# Altium footprint library AltiumOpenLibs.PcbLib: 173 footprints (part 7 of 11)
Each footprint in its own frame and in the unit in brackets; x right, y up, seen from the top. Pads: shape width x height; smd on the part's side, far side on the other; paste and mask are expansions set on the pad; w line width, h text height; cw(c..) or ccw(c..) is an arc to the next point about the centre after c.
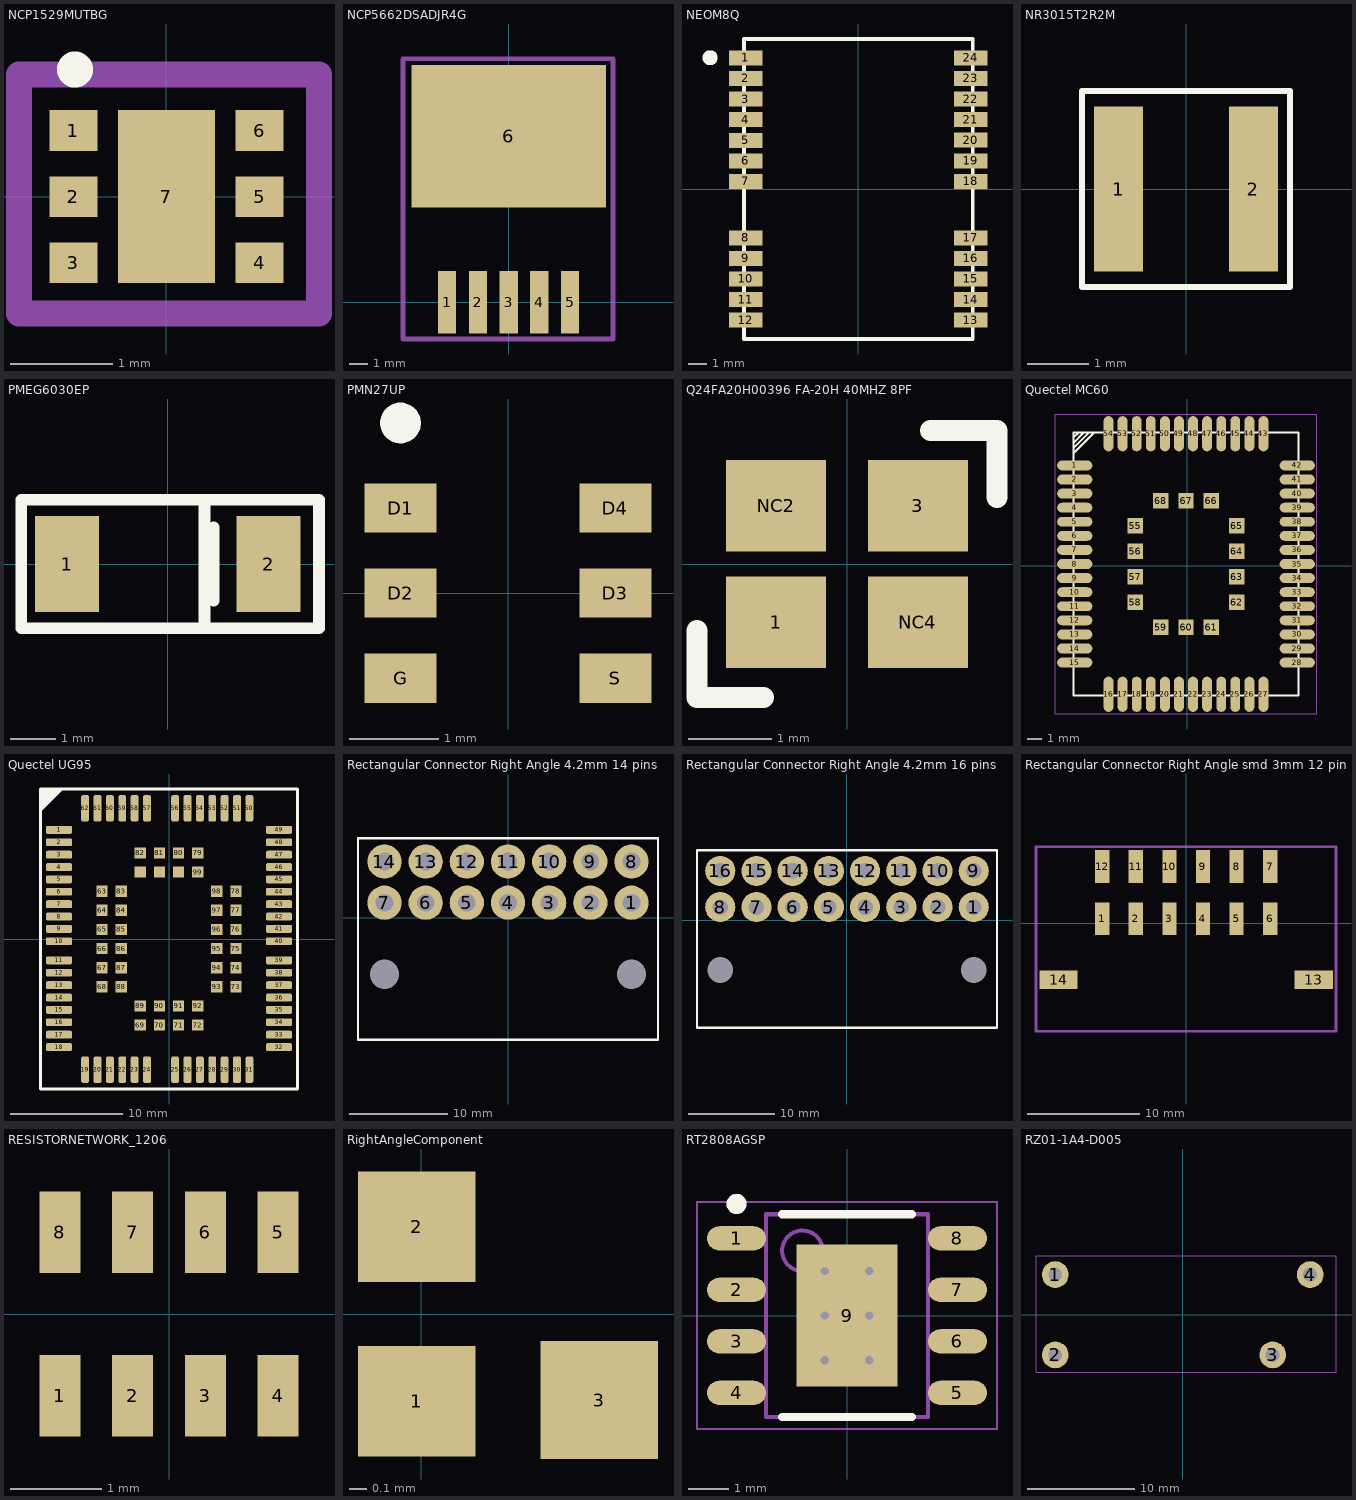
[diagram p6: the footprints below, top view; thin cyan lines are the x and y axes]

## NCP1529MUTBG [mm]
pads (7):
  rect 0.47x0.4 smd: 1(-0.915,0.65) 2(-0.915,0) 3(-0.915,-0.65) 4(0.915,-0.65) 5(0.915,0) 6(0.915,0.65)
  rect 0.95x1.7 smd: 7(0,0)
Top Overlay:
  circle w0.254: c-0.9,1.25 r0.05
Mechanical 15:
  lines w0.254: -1.45,-1.15 1.5,-1.15 1.5,1.2 -1.45,1.2 -1.45,-1.15

## NCP5662DSADJR4G [mil]
pads (6):
  rect 40x136 smd: 1(-134.25,0) 2(-66.93,0) 3(0,0) 4(66.54,0) 5(133.46,0)
  rect 424x310 smd: 6(0,361)
Mechanical 15:
  lines w10: -230,-80 227,-80 227,530 -230,530 -230,-80

## NEOM8Q [mm]
pads (24):
  rect 1.8x0.8 smd: 1(-6,7) 2(-6,5.9) 3(-6,4.8) 4(-6,3.7) 5(-6,2.6) 6(-6,1.5) 7(-6,0.4) 8(-6,-2.6) 9(-6,-3.7) 10(-6,-4.8) 11(-6,-5.9) 12(-6,-7) 13(6,-7) 14(6,-5.9) 15(6,-4.8) 16(6,-3.7) 17(6,-2.6) 18(6,0.4) 19(6,1.5) 20(6,2.6) 21(6,3.7) 22(6,4.8) 23(6,5.9) 24(6,7)
Top Overlay:
  circle w0.4: c-7.9,7 r0.2
  lines w0.2: -6.1,-8 -6.1,8 6.1,8 6.1,-8 -6.1,-8
3D body: height 0, standoff 0, extent -6.1,-8.025 6.075,8.025

## NR3015T2R2M [mm]
pads (2):
  rect 0.8x2.7 smd: 1(-1.1,0) 2(1.1,0)
Top Overlay:
  lines w0.1: -1.7,-1.6 -1.7,1.6 1.7,1.6 1.7,-1.6 -1.7,-1.6
Mechanical 15:
  lines w0.1: -1.7,-1.6 1.7,-1.6 1.7,1.6 -1.7,1.6 -1.7,-1.6

## PMEG6030EP [mm]
pads (2):
  rect 1.4x2.1 smd: 1(-2.2,0) 2(2.2,0)
Top Overlay:
  lines w0.254: 0.8,-1.4 0.8,1.3 ; 1,-0.8 1,0.8 ; -3.2,-1.4 -3.2,1.4 3.3,1.4 3.3,-1.4 -3.2,-1.4

## PMN27UP [mm]
pads (6):
  rect 0.8x0.55 smd: D1(-1.2,0.95) D2(-1.2,0) D3(1.2,0) D4(1.2,0.95) G(-1.2,-0.95) S(1.2,-0.95)
Top Overlay:
  circle w0.254: c-1.2,1.9 r0.1

## Q24FA20H00396 FA-20H 40MHZ 8PF [mm]
pads (4):
  rect 1.2x1.1 smd: 1(-0.85,-0.7) 3(0.85,0.7) NC2(-0.85,0.7) NC4(0.85,-0.7)
Top Overlay:
  lines w0.254: -1.8,-0.8 -1.8,-1.5 -1.8,-1.6 -1,-1.6 ; 1,1.6 1.8,1.6 1.8,1.5 1.8,0.8
3D body: height 0.55, standoff 0, extent -1.25,-1 1.25,1

## Quectel MC60 [mm]
pads (68):
  oval 2.5x0.7 smd: 1(-8,7.127) 2(-8,6.127) 3(-8,5.127) 4(-8,4.127) 5(-8,3.127) 6(-8,2.127) 7(-8,1.127) 8(-8,0.127) 9(-8,-0.873) 10(-8,-1.873) 11(-8,-2.873) 12(-8,-3.873) 13(-8,-4.873) 14(-8,-5.873) 15(-8,-6.873) 28(7.8,-6.873) 29(7.8,-5.873) 30(7.8,-4.873) 31(7.8,-3.873) 32(7.8,-2.873) 33(7.8,-1.873) 34(7.8,-0.873) 35(7.8,0.127) 36(7.8,1.127) 37(7.8,2.127) 38(7.8,3.127) 39(7.8,4.127) 40(7.8,5.127) 41(7.8,6.127) 42(7.8,7.127)
  oval 0.7x2.5 smd: 16(-5.6,-9.123) 17(-4.6,-9.123) 18(-3.6,-9.123) 19(-2.6,-9.123) 20(-1.6,-9.123) 21(-0.6,-9.123) 22(0.4,-9.123) 23(1.4,-9.123) 24(2.4,-9.123) 25(3.4,-9.123) 26(4.4,-9.123) 27(5.4,-9.123) 43(5.4,9.377) 44(4.4,9.377) 45(3.4,9.377) 46(2.4,9.377) 47(1.4,9.377) 48(0.4,9.377) 49(-0.6,9.377) 50(-1.6,9.377) 51(-2.6,9.377) 52(-3.6,9.377) 53(-4.6,9.377) 54(-5.6,9.377)
  rect 1.1x1.1 smd: 55(-3.7,2.827) 56(-3.7,1.027) 57(-3.7,-0.773) 58(-3.7,-2.573) 59(-1.9,-4.373) 60(-0.1,-4.373) 61(1.7,-4.373) 62(3.5,-2.573) 63(3.5,-0.773) 64(3.5,1.027) 65(3.5,2.827) 66(1.7,4.627) 67(-0.1,4.627) 68(-1.9,4.627)
Top Overlay:
  lines w0.01: -8.1,9.377 -8,9.477
  lines w0.15: -8.1,8.71 -7.34,9.47 ; -8.1,9.08 -7.715,9.465 ; -8.09,8 -6.625,9.465 ; -8.07,8.38 -6.975,9.475 ; -8.1,-9.223 -8.1,9.477 7.9,9.477 7.9,-9.223 -8.1,-9.223
Mechanical 1:
  lines w0.01: -9.4,-10.523 9.2,-10.523 9.2,10.777 -9.4,10.777 -9.4,-10.523

## Quectel UG95 [mm]
pads (102):
  rrect50% 2.35x0.7 smd: 1(-9.779,9.696) 2(-9.779,8.595) 3(-9.779,7.495) 4(-9.779,6.395) 5(-9.779,5.295) 6(-9.779,4.196) 7(-9.779,3.096) 8(-9.779,1.996) 9(-9.779,0.895) 10(-9.779,-0.205) 11(-9.779,-1.904) 12(-9.779,-3.004) 13(-9.779,-4.105) 14(-9.779,-5.205) 15(-9.779,-6.305) 16(-9.779,-7.404) 17(-9.779,-8.504) 18(-9.779,-9.604) 32(9.779,-9.604) 33(9.779,-8.504) 34(9.779,-7.404) 35(9.779,-6.305) 36(9.779,-5.205) 37(9.779,-4.105) 38(9.779,-3.004) 39(9.779,-1.904) 40(9.779,-0.205) 41(9.779,0.895) 42(9.779,1.996) 43(9.779,3.096) 44(9.779,4.196) 45(9.779,5.295) 46(9.779,6.395) 47(9.779,7.495) 48(9.779,8.595) 49(9.779,9.696)
  rrect50% 0.7x2.35 smd: 19(-7.454,-11.62) 20(-6.354,-11.62) 21(-5.254,-11.62) 22(-4.154,-11.62) 23(-3.054,-11.62) 24(-1.954,-11.62) 25(0.546,-11.62) 26(1.646,-11.62) 27(2.746,-11.62) 28(3.846,-11.62) 29(4.946,-11.62) 30(6.046,-11.62) 31(7.146,-11.62) 50(7.146,11.62) 51(6.046,11.62) 52(4.946,11.62) 53(3.846,11.62) 54(2.746,11.62) 55(1.646,11.62) 56(0.546,11.62) 57(-1.954,11.62) 58(-3.054,11.62) 59(-4.154,11.62) 60(-5.254,11.62) 61(-6.354,11.62) 62(-7.454,11.62)
  rect 1x1 smd: 63(-5.954,4.246) 64(-5.954,2.546) 65(-5.954,0.846) 66(-5.954,-0.845) 67(-5.954,-2.546) 68(-5.954,-4.246) 69(-2.554,-7.645) 70(-0.854,-7.645) 71(0.846,-7.645) 72(2.546,-7.645) 73(5.945,-4.254) 74(5.945,-2.554) 75(5.945,-0.854) 76(5.945,0.846) 77(5.945,2.546) 78(5.945,4.246) 79(2.546,7.655) 80(0.846,7.655) 81(-0.854,7.654) 82(-2.554,7.655) 83(-4.255,4.246) 84(-4.255,2.546) 85(-4.255,0.846) 86(-4.255,-0.854) 87(-4.255,-2.554) 88(-4.255,-4.254) 89(-2.554,-5.945) 90(-0.854,-5.945) 91(0.846,-5.945) 92(2.546,-5.945) 93(4.246,-4.246) 94(4.246,-2.546) 95(4.246,-0.845) 96(4.246,0.846) 97(4.246,2.546) 98(4.246,4.246) 99(2.546,5.954) 100(0.846,5.955) 101(-0.854,5.954) 102(-2.554,5.955)
Top Overlay:
  region: -11.43,11.43 -11.43,13.335 -9.525,13.335
  lines w0.254: -11.43,11.43 -9.525,13.335 ; -11.43,-13.335 -11.43,13.335 11.43,13.335 11.43,-13.335 -11.43,-13.335
3D body: height 2.2, standoff 0.05, extent -9.906,-11.811 10.033,11.811

## Rectangular Connector Right Angle 4.2mm 14 pins [mm]
pads (16):
  round 3.5 hole 1.8: 1(12.6,1.55) 2(8.4,1.55) 3(4.2,1.55) 4(0,1.55) 5(-4.2,1.55) 6(-8.4,1.55) 7(-12.6,1.55) 8(12.6,5.75) 9(8.4,5.75) 10(4.2,5.75) 11(0,5.75) 12(-4.2,5.75) 13(-8.4,5.75) 14(-12.6,5.75)
  round 0 hole 3: 15(-12.6,-5.75) 16(12.6,-5.75)
Top Overlay:
  lines w0.254: -15.3,-12.45 -15.3,8.15 15.3,8.15 15.3,-12.45 -15.3,-12.45

## Rectangular Connector Right Angle 4.2mm 16 pins [mm]
pads (18):
  round 3.5 hole 1.8: 1(14.7,1.55) 2(10.5,1.55) 3(6.3,1.55) 4(2.1,1.55) 5(-2.1,1.55) 6(-6.3,1.55) 7(-10.5,1.55) 8(-14.7,1.55) 9(14.7,5.75) 10(10.5,5.75) 11(6.3,5.75) 12(2.1,5.75) 13(-2.1,5.75) 14(-6.3,5.75) 15(-10.5,5.75) 16(-14.7,5.75)
  round 0 hole 3: 17(14.7,-5.75) 18(-14.7,-5.75)
Top Overlay:
  lines w0.254: -17.4,-12.45 -17.4,8.15 17.4,8.15 17.4,-12.45 -17.4,-12.45

## Rectangular Connector Right Angle smd 3mm 12 pins [mm]
pads (14):
  rect 1.27x2.92 smd: 1(-7.5,0.4) 2(-4.5,0.4) 3(-1.5,0.4) 4(1.5,0.4) 5(4.5,0.4) 6(7.5,0.4) 7(7.5,5.05) 8(4.5,5.05) 9(1.5,5.05) 10(-1.5,5.05) 11(-4.5,5.05) 12(-7.5,5.05)
  rect 3.43x1.65 smd: 13(11.395,-5.05) 14(-11.395,-5.05)
Mechanical 15:
  lines w0.254: -13.405,-9.65 -13.405,6.81 13.375,6.81 13.375,-9.65 4.185,-9.65 -11.775,-9.65 -13.405,-9.65

## RESISTORNETWORK_1206 [mm]
pads (8):
  rect 0.45x0.9 smd: 1(-1.2,-0.9) 2(-0.4,-0.9) 3(0.4,-0.9) 4(1.2,-0.9) 5(1.2,0.9) 6(0.4,0.9) 7(-0.4,0.9) 8(-1.2,0.9)
3D body "User Library-TC164.STEP": height 0.55, standoff 0, extent -1.61,-0.78 1.59,0.82

## RightAngleComponent [mm]
pads (3):
  rect 0.66x0.62 smd: 1(-0.025,-0.49) 2(-0.025,0.49)
  rect 0.66x0.66 smd: 3(0.998,-0.483)

## RT2808AGSP [mm] "SOIC, 8-Leads, Body 4.90x3.91mm, Pitch 1.27mm, Thermal Pad 3.50x2.50mm, IPC Medium Density"
height 1.76
pads (9):
  oval 1.45x0.6 smd: 1(-2.725,1.905) 2(-2.725,0.635) 3(-2.725,-0.635) 4(-2.725,-1.905) 5(2.725,-1.905) 6(2.725,-0.635) 7(2.725,0.635) 8(2.725,1.905)
  rect 2.5x3.5 all layers, no hole: 9(0,0)
via 0.55,-1.1 diameter 0.5 hole 0.2
via -0.55,-1.1 diameter 0.5 hole 0.2
via 0.55,0 diameter 0.5 hole 0.2
via -0.55,0 diameter 0.5 hole 0.2
via 0.55,1.1 diameter 0.5 hole 0.2
via -0.55,1.1 diameter 0.5 hole 0.2
Top Overlay:
  circle w0.25: c-2.725,2.755 r0.125
  lines w0.2: -1.6,-2.5 1.6,-2.5 ; -1.6,2.5 1.6,2.5
Mechanical 13:
  circle w0.1: c-1.1,1.6 r0.5
  lines w0.1: -2,-2.5 2,-2.5 2,2.5 -2,2.5 -2,-2.5
Mechanical 15:
  lines w0.05: -3.7,-2.8 3.7,-2.8 3.7,2.8 -3.7,2.8 -3.7,-2.8
  lines w0.1: -0.5,0 0.5,0 ; 0,-0.5 0,0.5
3D body: height 1.76, standoff 0, extent -2,-2.5 2,2.5

## RZ01-1A4-D005 [mm]
pads (4):
  round 2.5 hole 1.3: 1(-11.9,3.75) 2(-11.9,-3.75) 3(8.4,-3.75) 4(11.9,3.75)
Mechanical 15:
  lines w0.1: -13.7,-5.39 14.3,-5.39 14.31,-5.38 14.31,5.51 14.29,5.53 -13.68,5.53 -13.68,5.37 -13.68,-5.37 -13.7,-5.39